# Altium schematic symbol library SN74LVC1G07DCKRE4.SchLib: 1 symbol
Pins are listed as number, name and electrical type; pins without a type are passive.

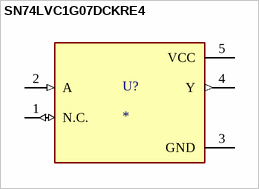
[diagram p0: symbol SN74LVC1G07DCKRE4]

## SN74LVC1G07DCKRE4
designator U?
MP: SN74LVC1G07DCKRE4; Package: None; Price: None; Value: *; Availability: Unavailable
footprint SOT65P210X110-5N
pins: 1 N.C. (io), 2 A (in), 3 GND (power), 4 Y (out), 5 VCC (power)